# EAGLE library part FXAS21002CQR1 (library BBS_Library)
3-Axis Digital Angular Rate Gyroscope ±250°/s - ±2000°/s 12.5Hz - 800Hz DigiKey <https://www.digikey.com/en/products/detail/nxp-usa-inc/FXAS21002CQR1/5114591>
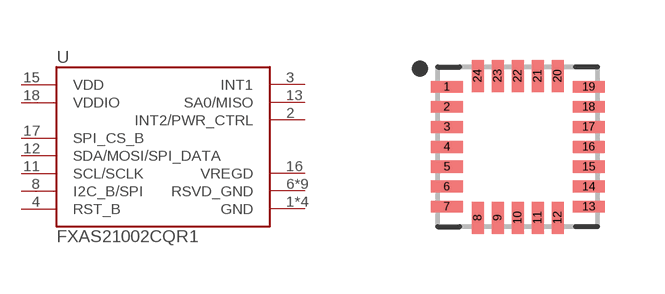
[diagram p0: symbol with the pads of 24-TFQFN; footprint 24-TFQFN]

Designator prefix U

## FXAS21002CQR1 (DKPN: FXAS21002CQR1TR-ND)  [24-TFQFN]
1  GND  pas
2  INT2/PWR_CTRL  pas
3  INT1  pas
4  RST_B  pas
5  GND  pas
6  RSVD_GND  pas
7  RSVD_GND  pas
8  I2C_B/SPI  pas
9  RSVD_GND  pas
10  RSVD_GND  pas
11  SCL/SCLK  pas
12  SDA/MOSI/SPI_DATA  pas
13  SA0/MISO  pas
14  GND  pas
15  VDD  pas
16  VREGD  pas
17  SPI_CS_B  pas
18  VDDIO  pas
19  GND  pas
20  RSVD_GND  pas
21  RSVD_GND  pas
22  RSVD_GND  pas
23  RSVD_GND  pas
24  RSVD_GND  pas

## Footprint 24-TFQFN (pad centres in mm)
smd 0.8 x 0.3: 1 -1.775,1.5; 2 -1.775,1; 3 -1.775,0.5; 4 -1.775,0; 5 -1.775,-0.5; 6 -1.775,-1; 7 -1.775,-1.5; 13 1.775,-1.5; 14 1.775,-1; 15 1.775,-0.5; 16 1.775,0; 17 1.775,0.5; 18 1.775,1; 19 1.775,1.5
smd 0.3 x 0.8: 8 -1,-1.775; 9 -0.5,-1.775; 10 0,-1.775; 11 0.5,-1.775; 12 1,-1.775; 20 1,1.775; 21 0.5,1.775; 22 0,1.775; 23 -0.5,1.775; 24 -1,1.775